# Altium schematic symbol library FT230XS.SchLib: 1 symbol
Pins are listed as number, name and electrical type; pins without a type are passive.

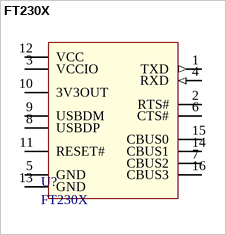
[diagram p0: symbol FT230X]

## FT230X
designator U?
IC USB SERIAL BASIC UART 16SSOP; MPN: FT230XS-R; Manufacturer: FTDI, Future Technology Devices International Ltd; Digi-Key: 768-1135-1-ND; Farnell: 2081321
footprint SOP0635P4800-16N (FT230X-SSOP-16 Medium density)
pins: 1 TXD (out), 2 RTS#, 3 VCCIO, 4 RXD (in), 5 GND, 6 CTS#, 7 CBUS2, 8 USBDP, 9 USBDM, 10 3V3OUT, 11 RESET#, 12 VCC, 13 GND, 14 CBUS1, 15 CBUS0, 16 CBUS3